# Altium footprint library Audio-Power-amlifier.PCBLIB: 50 footprints (part 3 of 4)
Each footprint in its own frame and in the unit in brackets; x right, y up, seen from the top. Pads: shape width x height; smd on the part's side, far side on the other; paste and mask are expansions set on the pad; w line width, h text height; cw(c..) or ccw(c..) is an arc to the next point about the centre after c.
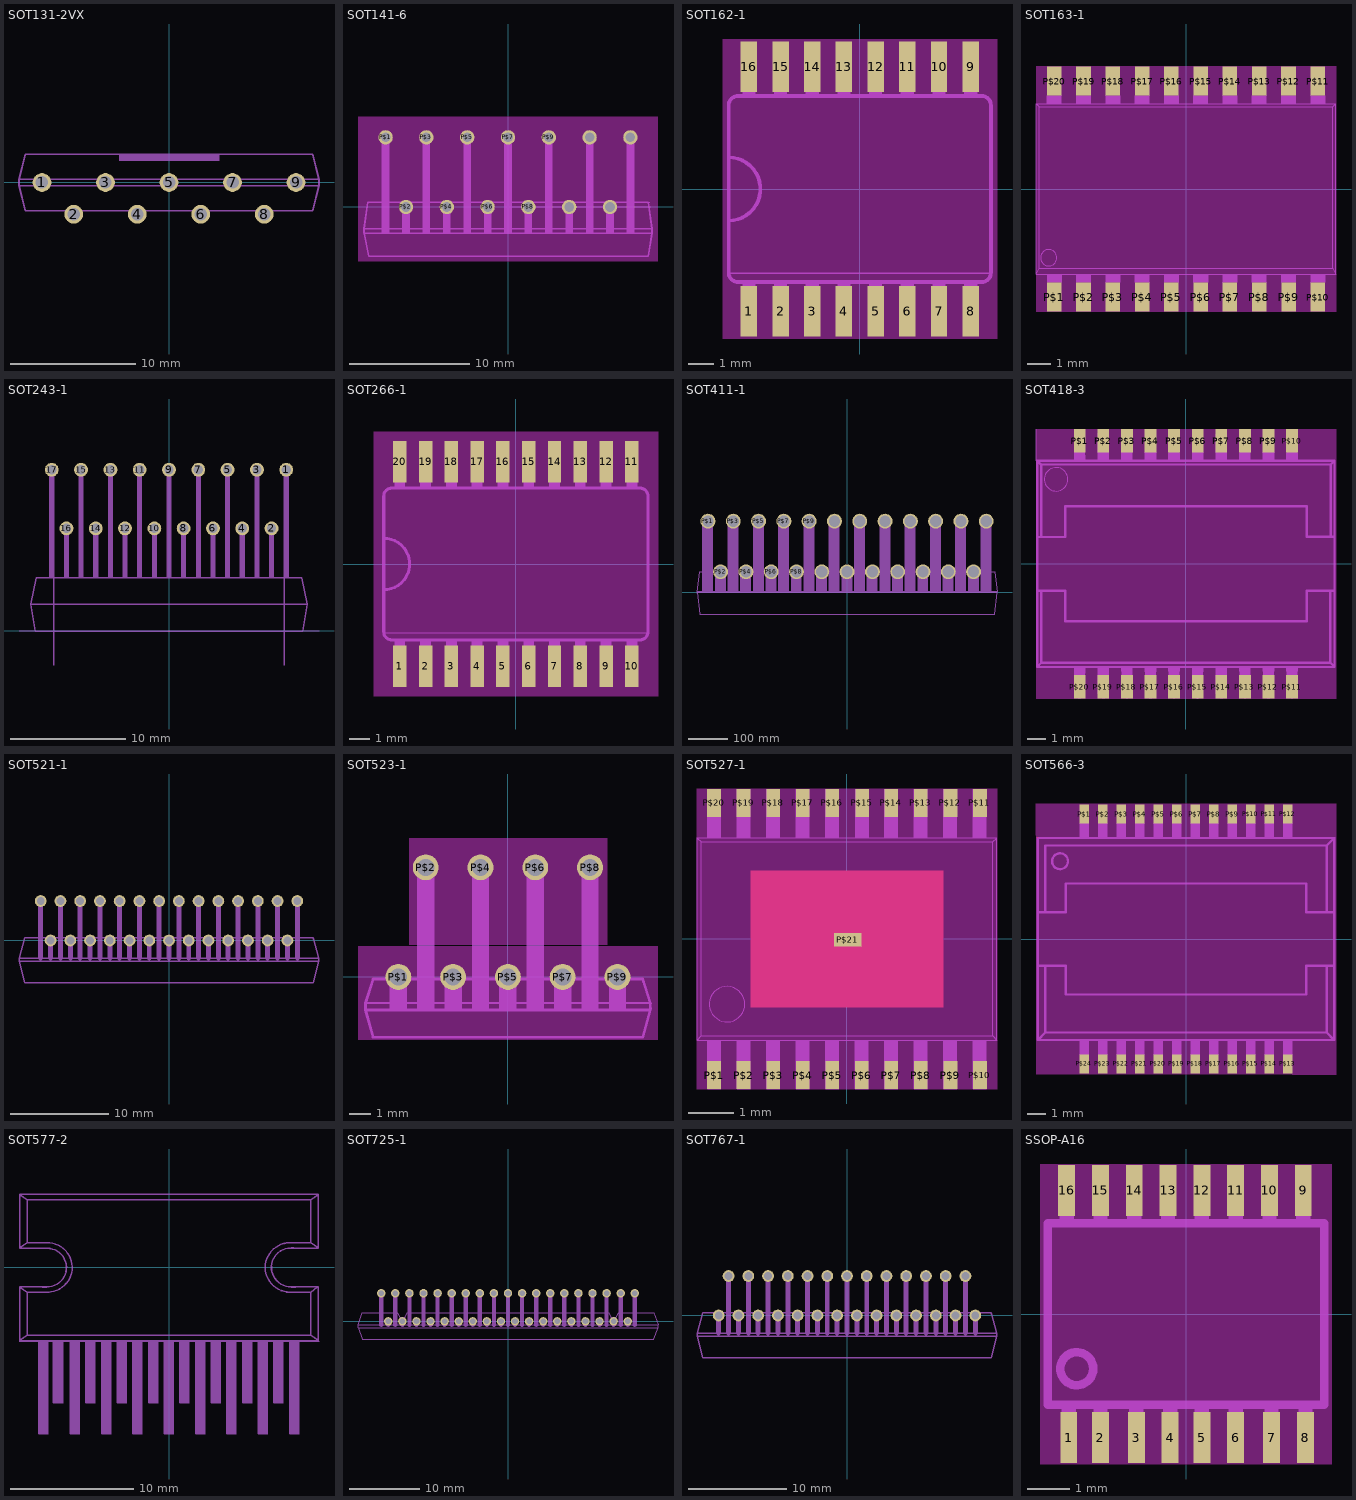
[diagram p2: the footprints below, top view; thin cyan lines are the x and y axes]

## SOT131-2VX [mm]
pads (9):
  round 1.5 / inner round 1.524 / far side round 1.5 hole 1: 1(-10.16,0) 2(-7.62,-2.54) 3(-5.08,0) 4(-2.54,-2.54) 5(0,0) 6(2.54,-2.54) 7(5.08,0) 8(7.62,-2.54) 9(10.16,0)
Mechanical 8:
  lines w0.127: -12,-0.25 12,-0.25 ; -12,0.25 12,0.25
Mechanical 22:
  region: -4,1.75 -4,2.25 4,2.25 4,1.75
  lines w0.127: -12,-0.25 -12,0.25 -11.5,2.25 11.5,2.25 12,0.25 12,-0.25 11.5,-2.25 -11.5,-2.25 -12,-0.25

## SOT141-6 [mil]
pads (14):
  round 47.25 / inner round 60 / far side round 47.25 hole 31.5: P$1(-401.57,228.35) P$2(-334.65,0) P$3(-267.72,228.35) P$4(-200.79,0) P$5(-133.86,228.35) P$6(-66.93,0) P$7(0,228.35) P$8(66.93,0) P$9(133.86,228.35) P$10(200.79,0) P$11(267.72,228.35) P$12(334.65,0) P$13(401.57,228.35) P$14(-66.93,0)
Top Layer keep-out:
  region: -492.13,-177.17 -492.13,295.28 492.13,295.28 492.13,-177.17
Mechanical 22:
  region: -413.39,228.35 -413.39,232.28 -389.76,232.28 -389.76,228.35
  region: -413.39,102.36 -413.39,232.28 -389.76,232.28 -389.76,102.36
  region: -413.39,-55.12 -413.39,102.36 -393.7,102.36 -393.7,-55.12
  region: -397.64,-78.74 -397.64,102.36 -393.7,102.36 -393.7,-78.74
  region: -413.39,-86.61 -413.39,-55.12 -393.7,-55.12 -393.7,-86.61
  region: -393.7,-86.61 -393.7,102.36 -389.76,102.36 -389.76,-86.61
  region: -346.46,-86.61 -346.46,3.94 -322.83,3.94 -322.83,-86.61
  region: -212.6,-86.61 -212.6,3.94 -188.98,3.94 -188.98,-86.61
  region: -78.74,-86.61 -78.74,3.94 -55.12,3.94 -55.12,-86.61
  region: 55.12,-86.61 55.12,3.94 78.74,3.94 78.74,-86.61
  region: 188.98,-86.61 188.98,3.94 212.6,3.94 212.6,-86.61
  region: 322.83,-86.61 322.83,3.94 346.46,3.94 346.46,-86.61
  region: -413.39,102.36 -413.39,232.28 -389.76,232.28 -389.76,102.36
  region: -279.53,-86.61 -279.53,232.28 -255.91,232.28 -255.91,-86.61
  region: -145.67,-86.61 -145.67,232.28 -122.05,232.28 -122.05,-86.61
  region: -11.81,-86.61 -11.81,232.28 11.81,232.28 11.81,-86.61
  region: 122.05,-86.61 122.05,232.28 145.67,232.28 145.67,-86.61
  region: 255.91,-86.61 255.91,232.28 279.53,232.28 279.53,-86.61
  region: 389.76,-86.61 389.76,232.28 413.39,232.28 413.39,-86.61
  lines w0: -460.63,15.75 -433.07,15.75 ; -401.57,-27.56 -401.57,-15.75 ; -181.1,-161.42 0,-161.42 460.63,-161.42 ; 0,0 468.5,0 ; 460.63,15.75 464.57,15.75
  lines w5: -472.44,-86.61 -472.44,-70.87 ; -472.44,-86.61 -456.69,-161.42 -181.1,-161.42 460.63,-161.42 472.44,-86.61 ; -472.44,-86.61 472.44,-86.61 ; -472.44,-70.87 -460.63,15.75 460.63,15.75 472.44,-70.87 ; -472.44,-70.87 472.44,-70.87 ; -472.44,-70.87 472.44,-70.87 ; -472.44,-70.87 472.44,-70.87 ; -472.44,-70.87 472.44,-70.87 ; 472.44,-86.61 472.44,-70.87

## SOT162-1 [mil]
pads (16):
  rect 26x80 smd: 1(-175,-193) 2(-125,-193) 3(-75,-193) 4(-25,-193) 5(25,-193) 6(75,-193) 7(125,-193) 8(175,-193) 9(175,193) 10(125,193) 11(75,193) 12(25,193) 13(-25,193) 14(-75,193) 15(-125,193) 16(-175,193)
Top Layer keep-out:
  region: -216.54,-236.22 -216.54,236.22 216.54,236.22 216.54,-236.22
Mechanical 8:
  region: -185,-210 -185,-152 -165,-152 -165,-210
  region: -135,-210 -135,-152 -115,-152 -115,-210
  region: -85,-210 -85,-152 -65,-152 -65,-210
  region: -35,-210 -35,-152 -15,-152 -15,-210
  region: 15,-210 15,-152 35,-152 35,-210
  region: 65,-210 65,-152 85,-152 85,-210
  region: 115,-210 115,-152 135,-152 135,-210
  region: 165,-210 165,-152 185,-152 185,-210
  region: -185,152 -185,210 -165,210 -165,152
  region: -135,152 -135,210 -115,210 -115,152
  region: -85,152 -85,210 -65,210 -65,152
  region: -35,152 -35,210 -15,210 -15,152
  region: 15,152 15,210 35,210 35,152
  region: 65,152 65,210 85,210 85,152
  region: 115,152 115,210 135,210 135,152
  region: 165,152 165,210 185,210 185,152
Mechanical 22:
  region: -185,-152 -185,-147 -165,-147 -165,-152
  region: -135,-152 -135,-147 -115,-147 -115,-152
  region: -85,-152 -85,-147 -65,-147 -65,-152
  region: -35,-152 -35,-147 -15,-147 -15,-152
  region: 15,-152 15,-147 35,-147 35,-152
  region: 65,-152 65,-147 85,-147 85,-152
  region: 115,-152 115,-147 135,-147 135,-152
  region: 165,-152 165,-147 185,-147 185,-152
  region: -185,147 -185,152 -165,152 -165,147
  region: -135,147 -135,152 -115,152 -115,147
  region: -85,147 -85,152 -65,152 -65,147
  region: -35,147 -35,152 -15,152 -15,147
  region: 15,147 15,152 35,152 35,147
  region: 65,147 65,152 85,152 85,147
  region: 115,147 115,152 135,152 135,147
  region: 165,147 165,152 185,152 185,147
  lines w2: -205,-133 206,-133
  lines w6: -207,-50 ccw(c-207,0) -207,50 ; -207,-50 -207,50 ; -207,-50 -207,-132 ccw(c-192,-132) -192,-147 192,-147 ccw(c192,-132) 207,-132 207,132 ccw(c192,132) 192,147 -192,147 ccw(c-192,132) -207,132 -207,50

## SOT163-1 [mil]
pads (20):
  rect 25x50 smd: P$1(-224.8,-184.45) P$2(-175,-184.45) P$3(-124.8,-184.45) P$4(-74.8,-184.45) P$5(-25,-184.45) P$6(25.2,-184.45) P$7(75,-184.45) P$8(125,-184.45) P$9(175.2,-184.45) P$10(225,-184.45) P$11(225,184.45) P$12(175,184.45) P$13(125,184.45) P$14(75,184.45) P$15(25,184.45) P$16(-25,184.45) P$17(-75,184.45) P$18(-125,184.45) P$19(-175,184.45) P$20(-225,184.45)
Top Layer keep-out:
  region: -256.1,-209.65 -256.1,209.84 256.1,209.84 256.1,-209.65
Mechanical 22:
  circle w0.39: c-234.25,-117.32 r13.92
  region: 212.6,-159.45 212.6,-145.67 237.4,-145.67 237.4,-159.45
  region: 162.8,-159.45 162.8,-145.67 187.6,-145.67 187.6,-159.45
  region: 162.8,-159.25 162.8,-158.86 163.19,-158.86 163.19,-159.25
  region: 112.6,-159.45 112.6,-145.67 137.4,-145.67 137.4,-159.45
  region: 62.6,-159.45 62.6,-145.67 87.4,-145.67 87.4,-159.45
  region: 12.8,-159.45 12.8,-145.67 37.6,-145.67 37.6,-159.45
  region: -37.4,-159.45 -37.4,-145.67 -12.6,-145.67 -12.6,-159.45
  region: -87.2,-159.45 -87.2,-145.67 -62.4,-145.67 -62.4,-159.45
  region: -137.2,-159.45 -137.2,-145.67 -112.4,-145.67 -112.4,-159.45
  region: -137.01,-159.45 -137.01,-158.46 -135.43,-158.46 -135.43,-159.45
  region: -187.4,-159.45 -187.4,-145.67 -162.6,-145.67 -162.6,-159.45
  region: -237.2,-159.45 -237.2,-145.67 -212.4,-145.67 -212.4,-159.45
  region: 212.6,145.67 212.6,159.45 237.4,159.45 237.4,145.67
  region: 162.6,145.47 162.6,159.45 187.4,159.45 187.4,145.47
  region: 112.6,145.47 112.6,159.45 137.4,159.45 137.4,145.47
  region: 62.6,145.47 62.6,159.45 87.4,159.45 87.4,145.47
  region: 12.6,145.67 12.6,159.45 37.4,159.45 37.4,145.67
  region: -37.4,145.47 -37.4,159.45 -12.6,159.45 -12.6,145.47
  region: -87.4,145.47 -87.4,159.45 -62.6,159.45 -62.6,145.47
  region: -137.4,145.67 -137.4,159.45 -112.6,159.45 -112.6,145.67
  region: -187.4,145.67 -187.4,159.45 -162.6,159.45 -162.6,145.67
  region: -237.4,145.47 -237.4,159.45 -212.6,159.45 -212.6,145.47
  lines w0.39: -255.51,-145.28 -250.79,-135.24 ; 255.51,-145.28 250.79,-135.24 ; -255.71,145.47 -250.79,140.55 ; -255.71,145.47 -255.71,-145.47 255.71,-145.47 255.71,145.47 ; -255.71,145.47 255.71,145.47 ; -250.79,-135.24 -250.79,140.55 ; -250.79,-135.24 250.79,-135.24 ; -250.79,140.55 -250.79,140.75 250.79,140.75 ; 250.79,-135.24 250.79,140.75 ; 250.79,140.75 255.71,145.47

## SOT243-1 [mil]
pads (17):
  round 47.25 / inner round 60 / far side round 47.25 hole 31.5: 1(400,550) 2(350,350) 3(300,550) 4(250,350) 5(200,550) 6(150,350) 7(100,550) 8(50,350) 9(0,550) 10(-50,350) 11(-100,550) 12(-150,350) 13(-200,550) 14(-250,350) 15(-300,550) 16(-350,350) 17(-400,550)
Mechanical 22:
  region: -307.87,180.71 -307.87,535.04 -292.13,535.04 -292.13,180.71
  region: -257.87,180.71 -257.87,334.25 -242.13,334.25 -242.13,180.71
  region: -407.87,180.71 -407.87,535.04 -392.13,535.04 -392.13,180.71
  region: -207.87,180.71 -207.87,535.04 -192.13,535.04 -192.13,180.71
  region: -107.87,180.71 -107.87,535.04 -92.13,535.04 -92.13,180.71
  region: -7.87,180.71 -7.87,535.04 7.87,535.04 7.87,180.71
  region: -357.87,180.71 -357.87,334.25 -342.13,334.25 -342.13,180.71
  region: -157.87,180.71 -157.87,334.25 -142.13,334.25 -142.13,180.71
  region: -57.87,180.71 -57.87,334.25 -42.13,334.25 -42.13,180.71
  region: 92.13,180.71 92.13,535.04 107.87,535.04 107.87,180.71
  region: 42.13,180.71 42.13,334.25 57.87,334.25 57.87,180.71
  region: 192.13,180.71 192.13,535.04 207.87,535.04 207.87,180.71
  region: 142.13,180.71 142.13,334.25 157.87,334.25 157.87,180.71
  region: 242.13,180.71 242.13,334.25 257.87,334.25 257.87,180.71
  region: 342.13,180.71 342.13,334.25 357.87,334.25 357.87,180.71
  region: 292.13,180.71 292.13,535.04 307.87,535.04 307.87,180.71
  region: 392.13,180.71 392.13,535.04 407.87,535.04 407.87,180.71
  lines w5: -472.44,90.16 472.44,90.16 ; -472.44,90.16 -452.76,180.71 452.76,180.71 472.44,90.16 ; -472.44,90.16 -456.69,-0.39 456.69,-0.39 472.44,90.16
Mechanical 44:
  lines w0: -511.81,0 511.81,0
  lines w5: -393.7,-116.93 -393.7,316.14 ; 393.7,-116.93 393.7,316.14

## SOT266-1 [mil]
pads (20):
  rect 26x80 smd: 1(-225,-198) 2(-175,-198) 3(-125,-198) 4(-75,-198) 5(-25,-198) 6(25,-198) 7(75,-198) 8(125,-198) 9(175,-198) 10(225,-198) 11(225,198) 12(175,198) 13(125,198) 14(75,198) 15(25,198) 16(-25,198) 17(-75,198) 18(-125,198) 19(-175,198) 20(-225,198)
Top Layer keep-out:
  region: -275.59,-255.91 -275.59,255.91 275.59,255.91 275.59,-255.91
Mechanical 8:
  region: -235,-210 -235,-152 -215,-152 -215,-210
  region: -185,-210 -185,-152 -165,-152 -165,-210
  region: -135,-210 -135,-152 -115,-152 -115,-210
  region: -85,-210 -85,-152 -65,-152 -65,-210
  region: -35,-210 -35,-152 -15,-152 -15,-210
  region: 15,-210 15,-152 35,-152 35,-210
  region: 65,-210 65,-152 85,-152 85,-210
  region: 115,-210 115,-152 135,-152 135,-210
  region: -235,152 -235,210 -215,210 -215,152
  region: -185,152 -185,210 -165,210 -165,152
  region: -135,152 -135,210 -115,210 -115,152
  region: -85,152 -85,210 -65,210 -65,152
  region: -35,152 -35,210 -15,210 -15,152
  region: 15,152 15,210 35,210 35,152
  region: 65,152 65,210 85,210 85,152
  region: 115,152 115,210 135,210 135,152
  region: 165,152 165,210 185,210 185,152
  region: 215,152 215,210 235,210 235,152
  region: 165,-210 165,-152 185,-152 185,-210
  region: 215,-210 215,-152 235,-152 235,-210
Mechanical 22:
  region: -235,-152 -235,-147 -215,-147 -215,-152
  region: -185,-152 -185,-147 -165,-147 -165,-152
  region: -135,-152 -135,-147 -115,-147 -115,-152
  region: -85,-152 -85,-147 -65,-147 -65,-152
  region: -35,-152 -35,-147 -15,-147 -15,-152
  region: 15,-152 15,-147 35,-147 35,-152
  region: 65,-152 65,-147 85,-147 85,-152
  region: 115,-152 115,-147 135,-147 135,-152
  region: -235,147 -235,152 -215,152 -215,147
  region: -185,147 -185,152 -165,152 -165,147
  region: -135,147 -135,152 -115,152 -115,147
  region: -85,147 -85,152 -65,152 -65,147
  region: -35,147 -35,152 -15,152 -15,147
  region: 15,147 15,152 35,152 35,147
  region: 65,147 65,152 85,152 85,147
  region: 115,147 115,152 135,152 135,147
  region: 165,147 165,152 185,152 185,147
  region: 215,147 215,152 235,152 235,147
  region: 165,-152 165,-147 185,-147 185,-152
  region: 215,-152 215,-147 235,-147 235,-152
  lines w2: -255,-133 255,-133
  lines w6: -256,-50 ccw(c-256,0) -256,50 ; -256,-50 -256,50 ; -256,-50 -256,-132 ccw(c-241,-132) -241,-147 241,-147 ccw(c241,-132) 256,-132 256,132 ccw(c241,132) 241,147 -241,147 ccw(c-241,132) -256,132 -256,50

## SOT411-1 [mil]
pads (23):
  round 1500 / inner round 60 / far side round 1500 hole 1125.98: P$1(-13970,7160) P$2(-12700,2080) P$3(-11430,7160) P$4(-10160,2080) P$5(-8890,7160) P$6(-7620,2080) P$7(-6350,7160) P$8(-5080,2080) P$9(-3810,7160) P$10(-2540,2080) P$11(-1270,7160) P$12(0,2080) P$13(1270,7160) P$14(2540,2080) P$15(3810,7160) P$16(5080,2080) P$17(6350,7160) P$18(7620,2080) P$19(8890,7160) P$20(10160,2080) P$21(11430,7160) P$22(12700,2080) P$23(13970,7160)
Mechanical 22:
  drawing of 102 lines, arcs and shapes, not listed

## SOT418-3 [mil]
pads (20):
  rect 25x50 smd: P$1(-225,260.43) P$2(-175,260.43) P$3(-125,260.43) P$4(-75,260.43) P$5(-25,260.43) P$6(25,260.43) P$7(75,260.43) P$8(125,260.43) P$9(175,260.43) P$10(225,260.43) P$11(225,-260.43) P$12(175,-260.43) P$13(125,-260.43) P$14(75,-260.43) P$15(25,-260.43) P$16(-25,-260.43) P$17(-75,-260.43) P$18(-125,-260.43) P$19(-175,-260.43) P$20(-225,-260.43)
Top Layer keep-out:
  region: -317.52,-286.42 -317.52,285.43 318.11,285.43 318.11,-286.42
Mechanical 22:
  drawing of 91 lines, arcs and shapes, not listed
Mechanical 23:
  circle w0.04: c-274.8,179.13 r24.95

## SOT521-1 [mm]
pads (27):
  round 1.2 / inner round 1.524 / far side round 1.2 hole 0.8: P$1(-13,4) P$2(-12,0) P$3(-11,4) P$4(-10,0) P$5(-9,4) P$6(-8,0) P$7(-7,4) P$8(-6,0) P$9(-5,4) P$10(-4,0) P$11(-3,4) P$12(-2,0) P$13(-1,4) P$14(0,0) P$15(1,4) P$16(2,0) P$17(3,4) P$18(4,0) P$19(5,4) P$20(6,0) P$21(7,4) P$22(8,0) P$23(9,4) P$24(10,0) P$25(11,4) P$26(12,0) P$27(13,4)
Mechanical 22:
  lines w0: 14.4,-2.1 14.9,-2.1 ; 14.6,0.1 14.6,0.3
  lines w0.127: -15.2,-2.1 14.4,-2.1 15.2,-2.1 ; -15.2,-2.1 -15.2,-1.8 ; -15.2,-2.1 -14.6,-4.3 14.6,-4.3 15.2,-2.1 ; -15.2,-1.8 -13,-1.8 -12,-1.8 -11,-1.8 -10,-1.8 -9,-1.8 -8,-1.8 -7,-1.8 -6,-1.8 -5,-1.8 -4,-1.8 -3,-1.8 -2,-1.8 -1,-1.8 0,-1.8 1,-1.8 2,-1.8 3,-1.8 4,-1.8 5,-1.8 6,-1.8 7,-1.8 8,-1.8 9,-1.8 10,-1.8 11,-1.8 12,-1.8 13,-1.8 15.2,-1.8 ; -15.2,-1.8 -14.6,0.3 14.6,0.3 15.2,-1.8 ; 15.2,-2.1 15.2,-1.8
  lines w0.5: -13,-1.8 -13,4 ; -12,-1.8 -12,0 ; -11,-1.8 -11,4 ; -10,-1.8 -10,0 ; -9,-1.8 -9,4 ; -8,-1.8 -8,0 ; -7,-1.8 -7,4 ; -6,-1.8 -6,0 ; -5,-1.8 -5,4 ; -4,-1.8 -4,0 ; -3,-1.8 -3,4 ; -2,-1.8 -2,0 ; -1,-1.8 -1,4 ; 0,-1.8 0,0 ; 1,-1.8 1,4 ; 2,-1.8 2,0 ; 3,-1.8 3,4 ; 4,-1.8 4,0 ; 5,-1.8 5,4 ; 6,-1.8 6,0 ; 7,-1.8 7,4 ; 8,-1.8 8,0 ; 9,-1.8 9,4 ; 10,-1.8 10,0 ; 11,-1.8 11,4 ; 12,-1.8 12,0 ; 13,-1.8 13,4

## SOT523-1 [mil]
pads (9):
  round 47.25 / inner round 60 / far side round 47.25 hole 31.5: P$1(-200,0) P$2(-150,200) P$3(-100,0) P$4(-50,200) P$5(0,0) P$6(50,200) P$7(100,0) P$8(150,200) P$9(200,0)
Top Layer keep-out:
  region: -273.62,-114.17 -273.62,55.91 274.02,55.91 274.02,-114.17
  region: -179.92,58.66 -179.92,252.76 181.1,252.76 181.1,58.66
Mechanical 22:
  region: -165.35,-57.87 -165.35,200 -134.65,200 -134.65,-57.87
  region: -65.35,-57.87 -65.35,200 -34.65,200 -34.65,-57.87
  region: 34.65,-57.87 34.65,200 65.35,200 65.35,-57.87
  region: 134.65,-57.87 134.65,200 165.35,200 165.35,-57.87
  region: -15.35,-57.87 -15.35,0 15.35,0 15.35,-57.87
  region: -115.35,-57.87 -115.35,0 -84.65,0 -84.65,-57.87
  region: -215.35,-57.87 -215.35,0 -184.65,0 -184.65,-57.87
  region: 84.65,-58.27 84.65,-0.39 115.35,-0.39 115.35,-58.27
  region: 184.65,-58.27 184.65,-0.39 215.35,-0.39 215.35,-58.27
  lines w0: -261.02,-60.24 -259.84,-60.24 -259.45,-60.24 -258.27,-60.24 ; -261.02,-59.45 -258.27,-59.45 ; -261.02,-57.87 -258.27,-57.87 ; -261.02,-56.3 -258.27,-56.3 ; -261.02,-48.43 -257.87,-48.43 ; -261.02,-47.64 -259.84,-47.64 -257.87,-47.64 ; -260.63,-50 -258.27,-50 ; -246.06,-110.24 -246.06,-104.72 ; -246.06,-8.66 -246.06,-3.94 ; -150,-12.6 -150,11.02 ; -150,189.76 -150,200 ; -50,-8.66 -50,9.45 ; -50,192.91 -50,200 ; 50,-9.45 50,9.06 ; 150,-11.02 150,9.06 ; 246.06,-110.24 246.06,-107.87 ; 246.06,-9.84 246.06,-3.94 ; 258.27,-60.24 259.84,-60.24 ; 258.27,-59.45 261.81,-59.45 ; 258.27,-57.87 262.2,-57.87 ; 258.27,-56.3 259.84,-56.3 ; 258.27,-50 261.81,-50 ; 258.27,-48.43 262.2,-48.43 262.2,-48.82 ; 258.27,-47.64 259.84,-47.64 262.2,-47.64 ; 261.81,-60.24 259.84,-60.24 ; 262.2,-56.3 259.84,-56.3 ; 259.84,-60.24 259.84,-56.3
  lines w5: -259.45,-60.24 259.84,-60.24 ; -259.84,-48.03 -259.84,-60.24 -246.06,-110.24 246.06,-110.24 259.84,-60.24 ; -259.84,-48.03 -259.84,-47.64 -246.06,-3.94 246.06,-3.94 259.84,-47.64 ; -259.84,-48.03 259.84,-47.24 259.84,-47.64 ; 259.84,-60.24 259.84,-47.64

## SOT527-1 [mil]
pads (21):
  rect 12x24 smd: P$1(-115.16,-117.91) P$2(-89.57,-117.91) P$3(-63.98,-117.91) P$4(-38.39,-117.91) P$5(-12.8,-117.91) P$6(12.8,-117.91) P$7(38.39,-117.91) P$8(63.98,-117.91) P$9(89.57,-117.91) P$10(115.16,-117.91) P$11(115.16,117.91) P$12(89.57,117.91) P$13(63.98,117.91) P$14(38.39,117.91) P$15(13.19,117.91) P$16(-12.8,117.91) P$17(-38.39,117.91) P$18(-63.98,117.91) P$19(-89.57,117.91) P$20(-115.16,117.91)
  rect 24x12 smd: P$21(0.59,-0.59)
Top Layer:
  region: -83.46,21.46 -83.46,59.06 83.46,59.06 83.46,21.46
  region: -83.46,-59.06 -83.46,21.46 83.46,21.46 83.46,-59.06
Top Layer keep-out:
  region: -130,-130 -130,130 130,130 130,-130
Mechanical 1:
  drawing of 195 lines, arcs and shapes, not listed

## SOT566-3 [mil]
pads (24):
  rect 20x40 smd: P$1(-216.54,265.75) P$2(-177.17,265.75) P$3(-137.8,265.75) P$4(-98.43,265.75) P$5(-59.06,265.75) P$6(-19.69,265.75) P$7(19.69,265.75) P$8(59.06,265.75) P$9(98.43,265.75) P$10(137.8,265.75) P$11(177.17,265.75) P$12(216.54,265.75) P$13(216.54,-265.75) P$14(177.17,-265.75) P$15(137.8,-265.75) P$16(98.43,-265.75) P$17(59.06,-265.75) P$18(19.69,-265.75) P$19(-19.69,-265.75) P$20(-59.06,-265.75) P$21(-98.43,-265.75) P$22(-137.8,-265.75) P$23(-177.17,-265.75) P$24(-216.54,-265.75)
Top Layer:
  lines w0: -316.93,216.54 -314.96,216.54
Top Layer keep-out:
  region: -318.9,-287.4 -318.9,287.4 318.9,287.4 318.9,-287.4
  lines w0: -318.9,220.47 -318.9,287.4 -238.19,287.4 ; 226.38,-287.4 318.9,-287.4 318.9,-216.54
Mechanical 22:
  circle w5: c-267.72,165.35 r16.82
  region: -226.38,216.54 -226.38,246.06 -206.69,246.06 -206.69,216.54
  region: -187.01,216.54 -187.01,246.06 -167.32,246.06 -167.32,216.54
  region: -147.64,216.54 -147.64,246.06 -127.95,246.06 -127.95,216.54
  region: -108.27,216.54 -108.27,246.06 -88.58,246.06 -88.58,216.54
  region: -68.9,216.54 -68.9,246.06 -49.21,246.06 -49.21,216.54
  region: -29.53,216.54 -29.53,246.06 -9.84,246.06 -9.84,216.54
  region: 9.84,216.54 9.84,246.06 29.53,246.06 29.53,216.54
  region: 49.21,216.54 49.21,246.06 68.9,246.06 68.9,216.54
  region: 88.58,216.54 88.58,246.06 108.27,246.06 108.27,216.54
  region: 127.95,216.54 127.95,246.06 147.64,246.06 147.64,216.54
  region: 167.32,216.54 167.32,246.06 187.01,246.06 187.01,216.54
  region: 206.69,216.54 206.69,246.06 226.38,246.06 226.38,216.54
  region: -226.38,-246.06 -226.38,-216.54 -206.69,-216.54 -206.69,-246.06
  region: -187.01,-246.06 -187.01,-216.54 -167.32,-216.54 -167.32,-246.06
  region: -147.64,-246.06 -147.64,-216.54 -127.95,-216.54 -127.95,-246.06
  region: -108.27,-246.06 -108.27,-216.54 -88.58,-216.54 -88.58,-246.06
  region: -68.9,-246.06 -68.9,-216.54 -49.21,-216.54 -49.21,-246.06
  region: -29.53,-246.06 -29.53,-216.54 -9.84,-216.54 -9.84,-246.06
  region: 9.84,-246.06 9.84,-216.54 29.53,-216.54 29.53,-246.06
  region: 49.21,-246.06 49.21,-216.54 68.9,-216.54 68.9,-246.06
  region: 88.58,-246.06 88.58,-216.54 108.27,-216.54 108.27,-246.06
  region: 127.95,-246.06 127.95,-216.54 147.64,-216.54 147.64,-246.06
  region: 167.32,-246.06 167.32,-216.54 187.01,-216.54 187.01,-246.06
  region: 206.69,-246.06 206.69,-216.54 226.38,-216.54 226.38,-246.06
  lines w0: -316.93,216.54 316.93,216.54 ; -255.91,-120.08 -255.91,-118.11 ; -255.91,118.11 -255.91,120.08
  lines w5: -312.99,-57.09 -255.91,-57.09 -255.91,-118.11 255.91,-118.11 255.91,-57.09 312.99,-57.09 ; -312.99,57.09 -255.91,57.09 -255.91,118.11 255.91,118.11 255.91,57.09 312.99,57.09 ; -299.21,-59.06 -299.21,-198.82 ; -299.21,59.06 -299.21,198.82 299.21,198.82 ; 299.21,-59.06 299.21,-198.82 ; 299.21,59.06 299.21,198.82 ; 312.99,212.6 299.21,198.82 ; -314.96,-214.57 314.96,-214.57 ; -314.96,-214.57 -314.96,214.57 314.96,214.57 314.96,-214.57 ; -314.96,-214.57 -299.21,-198.82 ; -299.21,-198.82 299.21,-198.82 ; 299.21,-198.82 314.96,-214.57

## SOT577-2 [mil]
Mechanical 22:
  drawing of 182 lines, arcs and shapes, not listed

## SOT725-1 [mil]
pads (37):
  round 47.25 / inner round 60 / far side round 47.25 hole 31.5: P$1(-708.66,157.48) P$2(-669.29,0) P$3(-629.92,157.48) P$4(-590.55,0) P$5(-551.18,157.48) P$6(-511.81,0) P$7(-472.44,157.48) P$8(-433.07,0) P$9(-393.7,157.48) P$10(-354.33,0) P$11(-314.96,157.48) P$12(-275.59,0) P$13(-236.22,157.48) P$14(-196.85,0) P$15(-157.48,157.48) P$16(-118.11,0) P$17(-78.74,157.48) P$18(-39.37,0) P$19(0,157.48) P$20(39.37,0) P$21(78.74,157.48) P$22(118.11,0) P$23(157.48,157.48) P$24(196.85,0) P$25(236.22,157.48) P$26(275.59,0) P$27(314.96,157.48) P$28(354.33,0) P$29(393.7,157.48) P$30(433.07,0) P$31(472.44,157.48) P$32(511.81,0) P$33(551.18,157.48) P$34(590.55,0) P$35(629.92,157.48) P$36(669.29,0) P$37(708.66,157.48)
Mechanical 22:
  lines w0.04: -838.58,-19.69 -708.66,-19.69 -669.29,-19.69 -629.92,-19.69 -614.17,-19.69 -590.55,-19.69 -551.18,-19.69 -511.81,-19.69 -472.44,-19.69 -433.07,-19.69 -429.13,-19.69 -393.7,-19.69 -354.33,-19.69 -314.96,-19.69 -275.59,-19.69 -236.22,-19.69 -196.85,-19.69 -157.48,-19.69 -118.11,-19.69 -78.74,-19.69 -39.37,-19.69 0,-19.69 39.37,-19.69 51.18,-19.69 78.74,-19.69 118.11,-19.69 157.48,-19.69 196.85,-19.69 236.22,-19.69 275.59,-19.69 314.96,-19.69 354.33,-19.69 393.7,-19.69 433.07,-19.69 472.44,-19.69 503.94,-19.69 511.81,-19.69 551.18,-19.69 590.55,-19.69 629.92,-19.69 669.29,-19.69 708.66,-19.69 838.58,-19.69 ; 783.46,-35.43 811.02,-35.43
  lines w5: -838.58,-35.43 -838.58,-19.69 ; -838.58,-35.43 -814.96,-98.43 814.96,-98.43 838.58,-35.43 ; -838.58,-35.43 -807.09,-35.43 783.46,-35.43 838.58,-35.43 ; -838.58,-19.69 -814.96,47.24 -708.66,47.24 -618.11,47.24 -606.3,23.62 -574.8,23.62 -562.99,47.24 562.99,47.24 574.8,23.62 606.3,23.62 618.11,47.24 814.96,47.24 838.58,-19.69 ; -838.58,-19.69 -614.17,-19.69 -429.13,-19.69 -196.85,-19.69 51.18,-19.69 275.59,-19.69 503.94,-19.69 838.58,-19.69 ; 838.58,-35.43 838.58,-19.69
  lines w23.62: -708.66,-19.69 -708.66,47.24 -708.66,157.48 ; -669.29,-19.69 -669.29,0 ; -629.92,-19.69 -629.92,157.48 ; -590.55,-19.69 -590.55,0 ; -551.18,-19.69 -551.18,157.48 ; -511.81,-19.69 -511.81,0 ; -472.44,-19.69 -472.44,157.48 ; -433.07,-19.69 -433.07,0 ; -393.7,-19.69 -393.7,157.48 ; -354.33,-19.69 -354.33,0 ; -314.96,-19.69 -314.96,157.48 ; -275.59,-19.69 -275.59,0 ; -236.22,-19.69 -236.22,157.48 ; -196.85,-19.69 -196.85,0 ; -157.48,-19.69 -157.48,157.48 ; -118.11,-19.69 -118.11,0 ; -78.74,-19.69 -78.74,157.48 ; -39.37,-19.69 -39.37,0 ; 0,-19.69 0,157.48 ; 39.37,-19.69 39.37,0 ; 78.74,-19.69 78.74,157.48 ; 118.11,-19.69 118.11,0 ; 157.48,-19.69 157.48,157.48 ; 196.85,-19.69 196.85,0 ; 236.22,-19.69 236.22,157.48 ; 275.59,-19.69 275.59,0 ; 314.96,-19.69 314.96,157.48 ; 354.33,-19.69 354.33,0 ; 393.7,-19.69 393.7,157.48 ; 433.07,-19.69 433.07,0 ; 472.44,-19.69 472.44,157.48 ; 511.81,-19.69 511.81,0 ; 551.18,-19.69 551.18,157.48 ; 590.55,-19.69 590.55,0 ; 629.92,-19.69 629.92,157.48 ; 669.29,-19.69 669.29,0 ; 708.66,-19.69 708.66,157.48

## SOT767-1 [mm]
pads (27):
  round 1.2 / inner round 1.524 / far side round 1.2 hole 0.8: P$1(-13,0) P$2(-12,4) P$3(-11,0) P$4(-10,4) P$5(-9,0) P$6(-8,4) P$7(-7,0) P$8(-6,4) P$9(-5,0) P$10(-4,4) P$11(-3,0) P$12(-2,4) P$13(-1,0) P$14(0,4) P$15(1,0) P$16(2,4) P$17(3,0) P$18(4,4) P$19(5,0) P$20(6,4) P$21(7,0) P$22(8,4) P$23(9,0) P$24(10,4) P$25(11,0) P$26(12,4) P$27(13,0)
Mechanical 22:
  lines w0: 14.4,-2.1 14.9,-2.1 ; 14.6,0.1 14.6,0.3
  lines w0.127: -15.2,-2.1 -14.6,-4.3 14.6,-4.3 15.2,-2.1 ; -15.2,-2.1 -15.2,-1.8 ; -15.2,-2.1 14.4,-2.1 15.2,-2.1 ; -15.2,-1.8 -14.6,0.3 14.6,0.3 15.2,-1.8 ; -15.2,-1.8 -13,-1.8 -12,-1.8 -11,-1.8 -10,-1.8 -9,-1.8 -8,-1.8 -7,-1.8 -6,-1.8 -5,-1.8 -4,-1.8 -3,-1.8 -2,-1.8 -1,-1.8 0,-1.8 1,-1.8 2,-1.8 3,-1.8 4,-1.8 5,-1.8 6,-1.8 7,-1.8 8,-1.8 9,-1.8 10,-1.8 11,-1.8 12,-1.8 13,-1.8 15.2,-1.8 ; 15.2,-2.1 15.2,-1.8
  lines w0.5: -13,-1.8 -13,0 ; -12,-1.8 -12,4 ; -11,-1.8 -11,0 ; -10,-1.8 -10,4 ; -9,-1.8 -9,0 ; -8,-1.8 -8,4 ; -7,-1.8 -7,0 ; -6,-1.8 -6,4 ; -5,-1.8 -5,0 ; -4,-1.8 -4,4 ; -3,-1.8 -3,0 ; -2,-1.8 -2,4 ; -1,-1.8 -1,0 ; 0,-1.8 0,4 ; 1,-1.8 1,0 ; 2,-1.8 2,4 ; 3,-1.8 3,0 ; 4,-1.8 4,4 ; 5,-1.8 5,0 ; 6,-1.8 6,4 ; 7,-1.8 7,0 ; 8,-1.8 8,4 ; 9,-1.8 9,0 ; 10,-1.8 10,4 ; 11,-1.8 11,0 ; 12,-1.8 12,4 ; 13,-1.8 13,0

## SSOP-A16 [mm]
pads (16):
  rect 0.4x1.2 smd: 1(-2.775,-2.925) 2(-2.025,-2.925) 3(-1.175,-2.925) 4(-0.375,-2.925) 5(0.375,-2.925) 6(1.175,-2.925) 7(2.025,-2.925) 8(2.825,-2.925) 9(2.775,2.925) 10(1.975,2.925) 11(1.175,2.925) 12(0.375,2.925) 13(-0.425,2.925) 14(-1.225,2.925) 15(-2.025,2.925) 16(-2.825,2.925)
Top Layer keep-out:
  region: -3.45,-3.55 -3.45,3.55 3.45,3.55 3.45,-3.55
Mechanical 8:
  region: -2.988,2.243 -2.988,3.315 -2.662,3.315 -2.662,2.243
  region: -2.187,2.243 -2.187,3.315 -1.863,3.315 -1.863,2.243
  region: -1.388,2.243 -1.388,3.315 -1.062,3.315 -1.062,2.243
  region: -0.588,2.243 -0.588,3.315 -0.262,3.315 -0.262,2.243
  region: 0.213,2.243 0.213,3.315 0.537,3.315 0.537,2.243
  region: 1.012,2.243 1.012,3.315 1.338,3.315 1.338,2.243
  region: 1.813,2.243 1.813,3.315 2.137,3.315 2.137,2.243
  region: 2.612,2.243 2.612,3.315 2.938,3.315 2.938,2.243
  region: 2.662,-3.315 2.662,-2.243 2.988,-2.243 2.988,-3.315
  region: 1.863,-3.315 1.863,-2.243 2.187,-2.243 2.187,-3.315
  region: 1.012,-3.315 1.012,-2.243 1.338,-2.243 1.338,-3.315
  region: 0.213,-3.315 0.213,-2.243 0.537,-2.243 0.537,-3.315
  region: -0.537,-3.315 -0.537,-2.243 -0.213,-2.243 -0.213,-3.315
  region: -1.338,-3.315 -1.338,-2.243 -1.012,-2.243 -1.012,-3.315
  region: -2.187,-3.315 -2.187,-2.243 -1.863,-2.243 -1.863,-3.315
  region: -2.938,-3.315 -2.938,-2.243 -2.612,-2.243 -2.612,-3.315
Mechanical 22:
  circle w0.203: c-2.585,-1.295 r0.39
  lines w0.203: -3.268,-2.145 -3.268,2.145 3.268,2.145 3.268,-2.145 -3.268,-2.145